# Altium schematic symbol library Res_TE_Connectivity_CRGCQ1210F2K7_eec.SchLib: 1 symbol
Pins are listed as number, name and electrical type; pins without a type are passive.

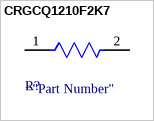
[diagram p0: symbol CRGCQ1210F2K7]

## CRGCQ1210F2K7
designator R?  (value not drawn)
pins: 1, 2